# Altium schematic symbol library cortexjtag.SchLib: 2 symbols
Pins are listed as number, name and electrical type; pins without a type are passive.

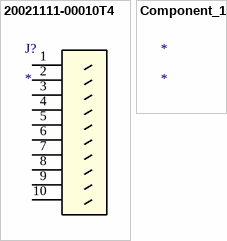
[diagram p0: symbols 20021111-00010T4 to Component_1]

## 20021111-00010T4
designator J?
Imported; Manufacturer_Part_Number: 20021111-00010T4LF; Vendor: FCI; C: Copyright (C) 2015 Accelerated Designs. All rights reserved; Copyright: Copyright (C) 2015 Accelerated Designs. All rights reserved; Value: Value; Type: Type; RefDes: RefDes
footprint CONN_MINITEK_2X5
pins: 1, 2, 3, 4, 5, 6, 7, 8, 9, 10

## Component_1
designator *